# EAGLE library part MOTDRVR&ENCODER (library modular_robot_parts)
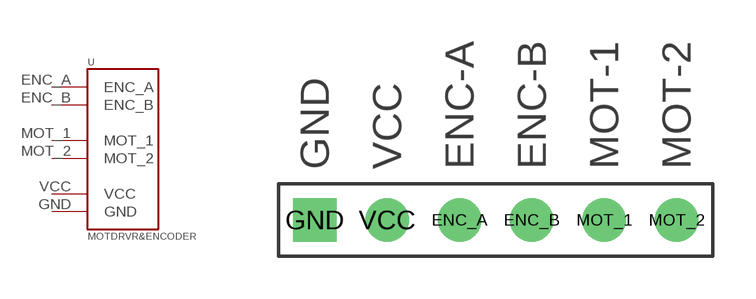
[diagram p2: symbol with the pads of MOTDRVR&ENCODER; footprint MOTDRVR&ENCODER]

Designator prefix -

## MOTDRVR&ENCODER  [MOTDRVR&ENCODER]
ENC_A  ENC_A
ENC_B  ENC_B
GND  GND
MOT_1  MOT_1
MOT_2  MOT_2
VCC  VCC

## Footprint MOTDRVR&ENCODER (pad centres in mm)
drill 1.016 round: ENC_A -1.27,0; ENC_B 1.27,0; MOT_1 3.81,0; MOT_2 6.35,0; VCC -3.81,0
drill 1.016 square: GND -6.35,0